# EAGLE library part AD8045 (library SparkFun-IC-Amplifiers)
Unity-gain stable feedback amplifier Low noise, low distortion, 1GHz BW. Datasheet <https://cdn.sparkfun.com/datasheets/BreakoutBoards/AD8045.pdf> SparkFun Products SparkFun MiniGen - Pro Mini Signal Generator Shield <https://www.sparkfun.com/products/11420> (BOB-11420)
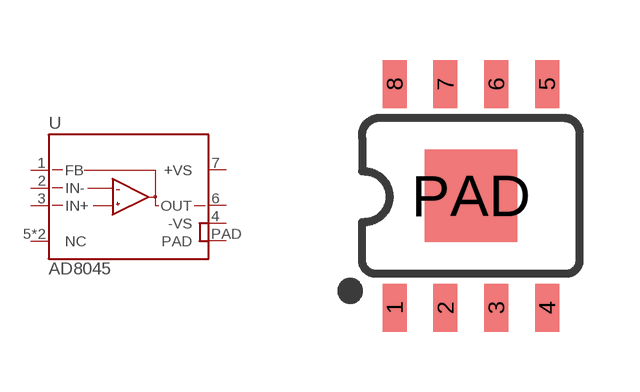
[diagram p12: symbol with the pads of SO08_PAD; footprint SO08_PAD]

Designator prefix U

## AD8045-PAD (PROD_ID: IC-11224; VALUE: ADC8045)  [SO08_PAD]
1  FB
2  IN-
3  IN+
4  -VS  pwr
5  NC  nc
6  OUT
7  +VS  pwr
8  NC  nc
PAD  PAD  pwr

## Footprint SO08_PAD (pad centres in mm)
SOIC, 0.15 inch width
smd 0.6 x 1.2: 1 -1.905,-2.8; 2 -0.635,-2.8; 3 0.635,-2.8; 4 1.905,-2.8; 5 1.905,2.8; 6 0.635,2.8; 7 -0.635,2.8; 8 -1.905,2.8
smd 2.311 x 2.311: PAD 0,0